# Altium footprint library MinesROV.PcbLib: 44 footprints (part 3 of 3)
Each footprint in its own frame and in the unit in brackets; x right, y up, seen from the top. Pads: shape width x height; smd on the part's side, far side on the other; paste and mask are expansions set on the pad; w line width, h text height; cw(c..) or ccw(c..) is an arc to the next point about the centre after c.
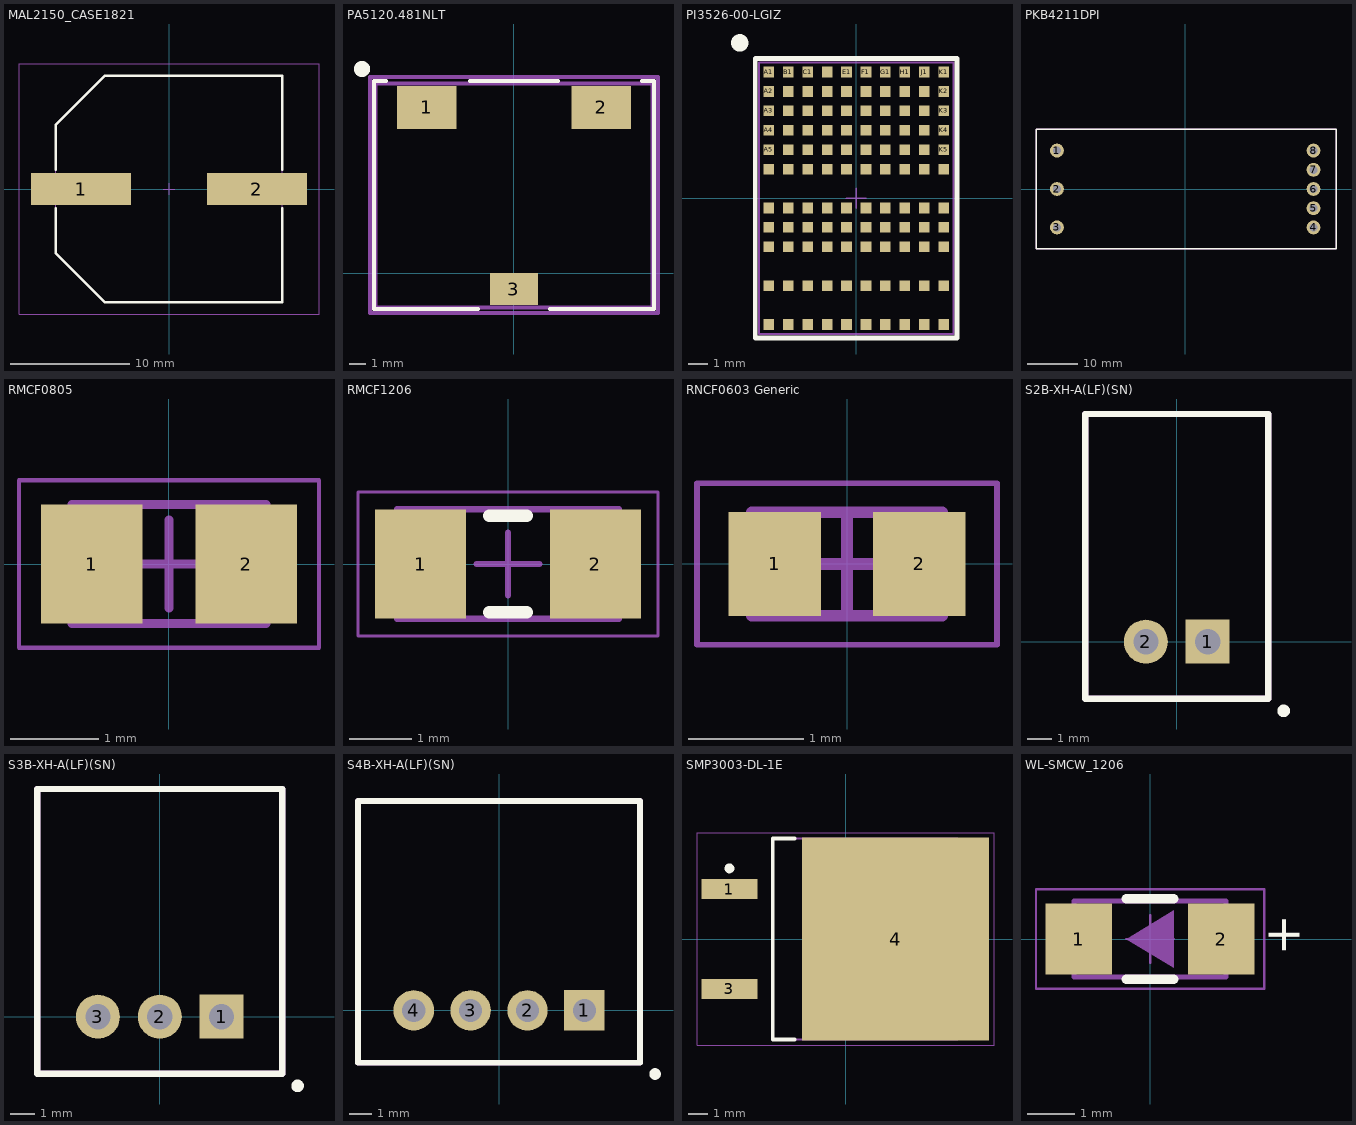
[diagram p2: the footprints below, top view; thin cyan lines are the x and y axes]

## MAL2150_CASE1821 [mm] "Vishay Aluminum Capacitor MAL2150 Case Code 1821"
height 22
pads (2):
  rect 8.4x2.65 smd: 1(-7.375,0) 2(7.375,0)
Top Overlay:
  lines w0.2: -9.5,-1.625 -9.5,-5.412 -5.412,-9.5 9.5,-9.5 9.5,-1.625 ; -9.5,1.625 -9.5,5.413 -5.412,9.5 9.5,9.5 9.5,1.625
Mechanical 13:
  lines w0.1: -9.5,-5.412 -5.412,-9.5 9.5,-9.5 9.5,9.5 -5.412,9.5 -9.5,5.413 -9.5,-5.412
Mechanical 15:
  lines w0.05: -12.6,-10.5 -12.6,10.5 12.6,10.5 12.6,-10.5 -12.6,-10.5
  lines w0.1: -0.5,0 0.5,0 ; 0,-0.5 0,0.5
3D body "MAL2150_CASE1821.step": height 22, standoff 0, extent -10.5,-9.5 10.5,9.5

## PA5120.481NLT [mm] "Pulse FIXED IND 480NH 32A 1.7MOHM SMD"
height 6.5
pads (3):
  rect 3.7x2.7 smd: 1(-5.45,10.35) 2(5.45,10.35)
  rect 3x2 smd: 3(0,-1)
Top Overlay:
  circle w0.5: c-9.5,12.75 r0.25
  lines w0.254: -8,12 -8.75,12 -8.75,-2.25 -2.25,-2.25 ; -2.75,12 2.75,12 ; 2.25,-2.25 8.75,-2.25 8.75,12 8,12
Mechanical 13:
  lines w0.254: -8.65,-2.15 -8.65,11.85 8.65,11.85 8.65,-2.15 -8.65,-2.15
Mechanical 15:
  lines w0.254: -9,-2.5 -9,12.25 9,12.25 9,-2.5 -9,-2.5
3D body: height 6.5, standoff 0, extent -8.65,-2.15 8.65,11.85

## PI3526-00-LGIZ [mm] "Vicor Power DC DC CONVERTER 12V 18A"
height 2.63
pads (110):
  rect 0.55x0.55 smd: A1(-4.5,6.5) A2(-4.5,5.5) A3(-4.5,4.5) A4(-4.5,3.5) A5(-4.5,2.5) B1(-3.5,6.5) BLOCK1(-4.5,-6.5) BLOCK1(-3.5,-6.5) BLOCK1(-2.5,-6.5) BLOCK1(-1.5,-6.5) BLOCK1(-0.5,-6.5) BLOCK1(0.5,-6.5) BLOCK1(1.5,-6.5) BLOCK1(2.5,-6.5) BLOCK1(3.5,-6.5) BLOCK1(4.5,-6.5) BLOCK2(-4.5,-4.5) BLOCK2(-3.5,-4.5) BLOCK2(-3.5,2.5) BLOCK2(-2.5,-4.5) BLOCK2(-2.5,1.5) BLOCK2(-2.5,2.5) BLOCK2(-2.5,3.5) BLOCK2(-1.5,-4.5) BLOCK2(-1.5,1.5) BLOCK2(-1.5,2.5) BLOCK2(-1.5,3.5) BLOCK2(-0.5,-4.5) BLOCK2(-0.5,1.5) BLOCK2(-0.5,2.5) BLOCK2(-0.5,3.5) BLOCK2(0.5,-4.5) BLOCK2(0.5,1.5) BLOCK2(0.5,2.5) BLOCK2(0.5,3.5) BLOCK2(0.5,4.5) BLOCK2(0.5,5.5) BLOCK2(1.5,-4.5) BLOCK2(1.5,1.5) BLOCK2(1.5,2.5) BLOCK2(1.5,3.5) BLOCK2(1.5,4.5) BLOCK2(1.5,5.5) BLOCK2(2.5,-4.5) BLOCK2(2.5,1.5) BLOCK2(2.5,2.5) BLOCK2(2.5,3.5) BLOCK2(2.5,4.5) BLOCK2(2.5,5.5) BLOCK2(3.5,-4.5) BLOCK2(3.5,1.5) BLOCK2(3.5,2.5) BLOCK2(3.5,3.5) BLOCK2(3.5,4.5) BLOCK2(3.5,5.5) BLOCK2(4.5,-4.5) BLOCK2(4.5,1.5) BLOCK3(-4.5,-2.5) BLOCK3(-4.5,-1.5) BLOCK3(-4.5,-0.5) BLOCK3(-3.5,-2.5) BLOCK3(-3.5,-1.5) BLOCK3(-3.5,-0.5) BLOCK3(-2.5,-2.5) BLOCK3(-2.5,-1.5) BLOCK3(-2.5,-0.5) BLOCK3(-1.5,-2.5) BLOCK3(-1.5,-1.5) BLOCK3(-1.5,-0.5) BLOCK3(-0.5,-2.5) BLOCK3(-0.5,-1.5) BLOCK3(-0.5,-0.5) BLOCK3(0.5,-2.5) BLOCK3(0.5,-1.5) BLOCK3(0.5,-0.5) BLOCK3(1.5,-2.5) BLOCK3(1.5,-1.5) BLOCK3(1.5,-0.5) BLOCK3(2.5,-2.5) BLOCK3(2.5,-1.5) BLOCK3(2.5,-0.5) BLOCK3(3.5,-2.5) BLOCK3(3.5,-1.5) BLOCK3(3.5,-0.5) BLOCK3(4.5,-2.5) BLOCK3(4.5,-1.5) BLOCK3(4.5,-0.5) BLOCK4(-4.5,1.5) BLOCK4(-3.5,1.5) BLOCK5(-3.5,3.5) BLOCK5(-3.5,4.5) BLOCK5(-3.5,5.5) BLOCK5(-2.5,4.5) BLOCK5(-2.5,5.5) BLOCK5(-1.5,4.5) BLOCK5(-1.5,5.5) BLOCK5(-1.5,6.5) BLOCK5(-0.5,4.5) BLOCK5(-0.5,5.5) C1(-2.5,6.5) E1(-0.5,6.5) F1(0.5,6.5) G1(1.5,6.5) H1(2.5,6.5) J1(3.5,6.5) K1(4.5,6.5) K2(4.5,5.5) K3(4.5,4.5) K4(4.5,3.5) K5(4.5,2.5)
Top Overlay:
  circle w0.5: c-6,8 r0.2
  lines w0.254: -5.2,-7.2 -5.2,7.2 5.2,7.2 5.2,-7.2 -5.2,-7.2
Mechanical 13:
  lines w0.1: -5,-7 5,-7 5,7 -5,7 -5,-7
Mechanical 15:
  lines w0.05: -5.25,-7.25 5.25,-7.25 5.25,7.25 -5.25,7.25 -5.25,-7.25
  lines w0.1: -0.5,0 0.5,0 ; 0,-0.5 0,0.5
3D body "PI33xx_and_PI34xx.step": height 2.62, standoff 0, extent -5,-6.75 5,7.25
3D body "PI3526-00-LGIZ.step": height 2.63, standoff 0, extent -5.05,-7.05 5.05,7.05

## PKB4211DPI [mm] "Flex Power DC DC CONVERTER 5V 200W"
height 13.2
pads (8):
  round 2.75 hole 1.6: 1(-25.4,7.6) 2(-25.4,0) 3(-25.4,-7.6) 4(25.4,-7.6) 5(25.4,-3.8) 6(25.4,0) 7(25.4,3.8) 8(25.4,7.6)
Top Overlay:
  lines w0.254: -29.55,-11.85 29.85,-11.85 29.85,11.85 -29.55,11.85 -29.55,-11.85
Mechanical 13:
  lines w0.254: -29.55,-11.85 -29.55,11.85 29.85,11.85 29.85,-11.85 -29.55,-11.85
3D body: height 13.2, standoff 0, extent -29.55,-11.85 29.85,11.85

## RMCF0805 [mm] "Stackpole RMCF0805 Family"
height 0.65
pads (2):
  rect 1.15x1.35 smd: 1(-0.875,0) 2(0.875,0)
Mechanical 13:
  lines w0.1: -1.1,-0.675 1.1,-0.675 1.1,0.675 -1.1,0.675 -1.1,-0.675
Mechanical 15:
  lines w0.05: -1.7,-0.95 1.7,-0.95 1.7,0.95 -1.7,0.95 -1.7,-0.95
  lines w0.1: -0.5,0 0.5,0 ; 0,-0.5 0,0.5
3D body "RMCF0805.step": height 0.65, standoff 0, extent -1.1,-0.675 1.1,0.675

## RMCF1206 [mm]
height 0.7
pads (2):
  rect 1.45x1.75 smd: 1(-1.4,0) 2(1.4,0)
Top Overlay:
  lines w0.2: -0.3,-0.775 0.3,-0.775 ; -0.3,0.775 0.3,0.775
Mechanical 13:
  lines w0.1: -1.775,-0.875 -1.775,0.875 1.775,0.875 1.775,-0.875 -1.775,-0.875
Mechanical 15:
  lines w0.05: -2.4,-1.15 -2.4,1.15 2.4,1.15 2.4,-1.15 -2.4,-1.15
  lines w0.1: -0.5,0 0.5,0 ; 0,-0.5 0,0.5
3D body "RMCF1206.step": height 0.7, standoff 0, extent -1.775,-0.875 1.775,0.875

## RNCF0603 Generic [mm] "Stackpole RES"
height 0.55
pads (2):
  rect 0.8x0.9 smd: 1(-0.625,0) 2(0.625,0)
Mechanical 13:
  lines w0.1: -0.825,-0.45 0.825,-0.45 0.825,0.45 -0.825,0.45 -0.825,-0.45
Mechanical 15:
  lines w0.05: -1.3,-0.7 1.3,-0.7 1.3,0.7 -1.3,0.7 -1.3,-0.7
  lines w0.1: -0.45,0 0.45,0 ; 0,-0.45 0,0.45
3D body "RNCF0603 Generic.step": height 0.55, standoff 0, extent -0.825,-0.45 0.825,0.45

## S2B-XH-A(LF)(SN) [mil] "JST XH CONN HEADER R/A 2POS 2.5MM"
height 240.16
pads (2):
  rect 70x70 hole 40: 1(49.21,0)
  round 70 hole 40: 2(-49.21,0)
Top Overlay:
  circle w10: c170,-110 r5
  lines w10: -145.67,-90.55 145.67,-90.55 145.67,362.2 -145.67,362.2 -145.67,-90.55
Mechanical 13:
  lines w10: -145.67,-90.55 -145.67,362.2 145.67,362.2 145.67,-90.55 -145.67,-90.55
3D body "S2B-XH-A(LF)(SN)--3DModel-STEP-56544.STEP": height 242.13, standoff -133.86, extent -145.67,-90.55 145.67,362.2

## S3B-XH-A(LF)(SN) [mil] "JST XH CONN HEADER R/A 3POS 2.5MM"
height 240.16
pads (3):
  rect 70x70 hole 40: 1(98.43,0)
  round 70 hole 40: 2(0,0) 3(-98.43,0)
Top Overlay:
  circle w10: c219.21,-110 r5
  lines w10: -194.88,-90.55 -194.88,362.2 194.88,362.2 194.88,-90.55 -194.88,-90.55
Mechanical 13:
  lines w10: -194.88,-90.55 194.88,-90.55 194.88,362.2 -194.88,362.2 -194.88,-90.55
3D body "S3B-XH-A-LF--SN---3DModel-STEP-56544.STEP": height 242.13, standoff -133.86, extent -194.89,-88.59 194.88,364.17

## S4B-XH-A(LF)(SN) [mil] "JST XH CONN HEADER R/A 4POS 2.5MM"
height 240.16
pads (4):
  rect 70x70 hole 40: 1(147.64,0)
  round 70 hole 40: 2(49.21,0) 3(-49.21,0) 4(-147.64,0)
Top Overlay:
  circle w10: c270,-110 r5
  lines w10: -244.09,-90.55 244.09,-90.55 244.09,362.2 -244.09,362.2 -244.09,-90.55
Mechanical 13:
  lines w10: -244.09,-90.55 -244.09,362.2 244.09,362.2 244.09,-90.55 -244.09,-90.55
3D body "S4B-XH-A(LF)(SN)--3DModel-STEP-56544.STEP": height 242.13, standoff -133.86, extent -244.1,-88.59 244.09,364.17

## SMP3003-DL-1E [mm] "ON Semi MOSFET P-CH 75V 100A D2PAK"
height 4.7
pads (3):
  rect 2.85x1 smd: 1(-5.9,2.54) 3(-5.9,-2.54)
  rect 9.5x10.3 smd: 4(2.55,0)
Top Overlay:
  circle w0.25: c-5.9,3.59 r0.125
  lines w0.2: -2.6,-5.1 -3.7,-5.1 -3.7,5.1 -2.6,5.1
Mechanical 13:
  lines w0.1: -3.7,-5.1 -3.7,5.1 5.7,5.1 5.7,-5.1 -3.7,-5.1
Mechanical 15:
  lines w0.05: -7.55,-5.4 -7.55,5.4 7.55,5.4 7.55,-5.4 -7.55,-5.4
  lines w0.1: -0.5,0 0.5,0 ; 0,-0.5 0,0.5
3D body "SMP3003-DL-1E.step": height 4.95, standoff 0, extent -6.2,-5.1 7.2,5.1

## WL-SMCW_1206 [mm] "SMD Mono-color Chip LED, body 3.2x1.6mm"
height 0.68
pads (2):
  rect 1.4x1.5 smd: 1(-1.5,0) 2(1.5,0)
Top Overlay:
  lines w0.2: -0.5,-0.85 0.5,-0.85 ; -0.5,0.85 0.5,0.85
  text "+" at 3.15,-0.35 h0.76
Mechanical 13:
  region: -0.5,0 0.5,-0.6 0.5,0 0.5,0.6
  lines w0.1: -1.6,-0.8 1.6,-0.8 1.6,0.8 -1.6,0.8 -1.6,-0.8
Mechanical 15:
  lines w0.05: -0.5,0 0.5,0 ; 0,-0.5 0,0.5 ; -2.4,-1.05 -2.4,1.05 2.4,1.05 2.4,-1.05 -2.4,-1.05
3D body "150120xS75000.stp": height 0.68, standoff 0, extent -1.6,-0.8 1.6,0.8